# EAGLE library part LOGIKPEGELWANDLER-6CH (library TI Logikpegelwandler)
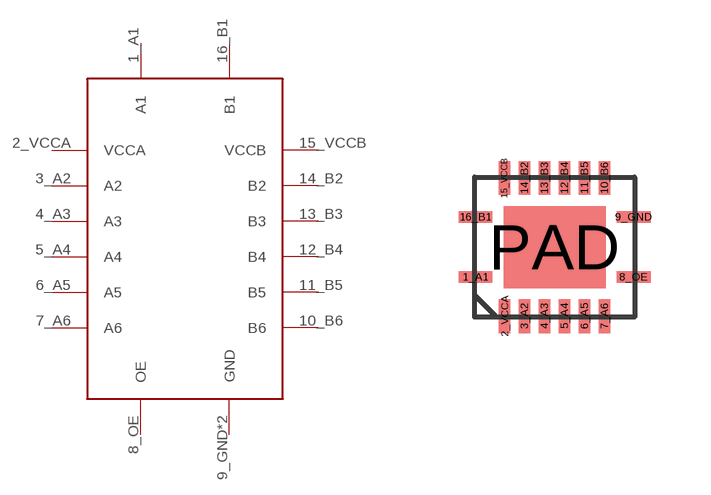
[diagram p1: symbol with the pads of R-PVQFN-N16; footprint R-PVQFN-N16]

Designator prefix -

## LOGIKPEGELWANDLER-6CH  [R-PVQFN-N16]
1_A1  A1
2_VCCA  VCCA
3_A2  A2
4_A3  A3
5_A4  A4
6_A5  A5
7_A6  A6
8_OE  OE
9_GND  GND
10_B6  B6
11_B5  B5
12_B4  B4
13_B3  B3
14_B2  B2
15_VCCB  VCCB
16_B1  B1
PAD  GND

## Footprint R-PVQFN-N16 (pad centres in mm)
smd 0.85 x 0.28: 1_A1 -1.975,-0.75; 8_OE 1.975,-0.75; 9_GND 1.975,0.75; 16_B1 -1.975,0.75
smd 0.28 x 0.85: 2_VCCA -1.25,-1.725; 3_A2 -0.75,-1.725; 4_A3 -0.25,-1.725; 5_A4 0.25,-1.725; 6_A5 0.75,-1.725; 7_A6 1.25,-1.725; 10_B6 1.25,1.725; 11_B5 0.75,1.725; 12_B4 0.25,1.725; 13_B3 -0.25,1.725; 14_B2 -0.75,1.725; 15_VCCB -1.25,1.725
smd 2.55 x 2.05: PAD 0,0